# Altium footprint library con-wago.PCBLIB: 167 footprints (part 5 of 11)
Each footprint in its own frame and in the unit in brackets; x right, y up, seen from the top. Pads: shape width x height; smd on the part's side, far side on the other; paste and mask are expansions set on the pad; w line width, h text height; cw(c..) or ccw(c..) is an arc to the next point about the centre after c.
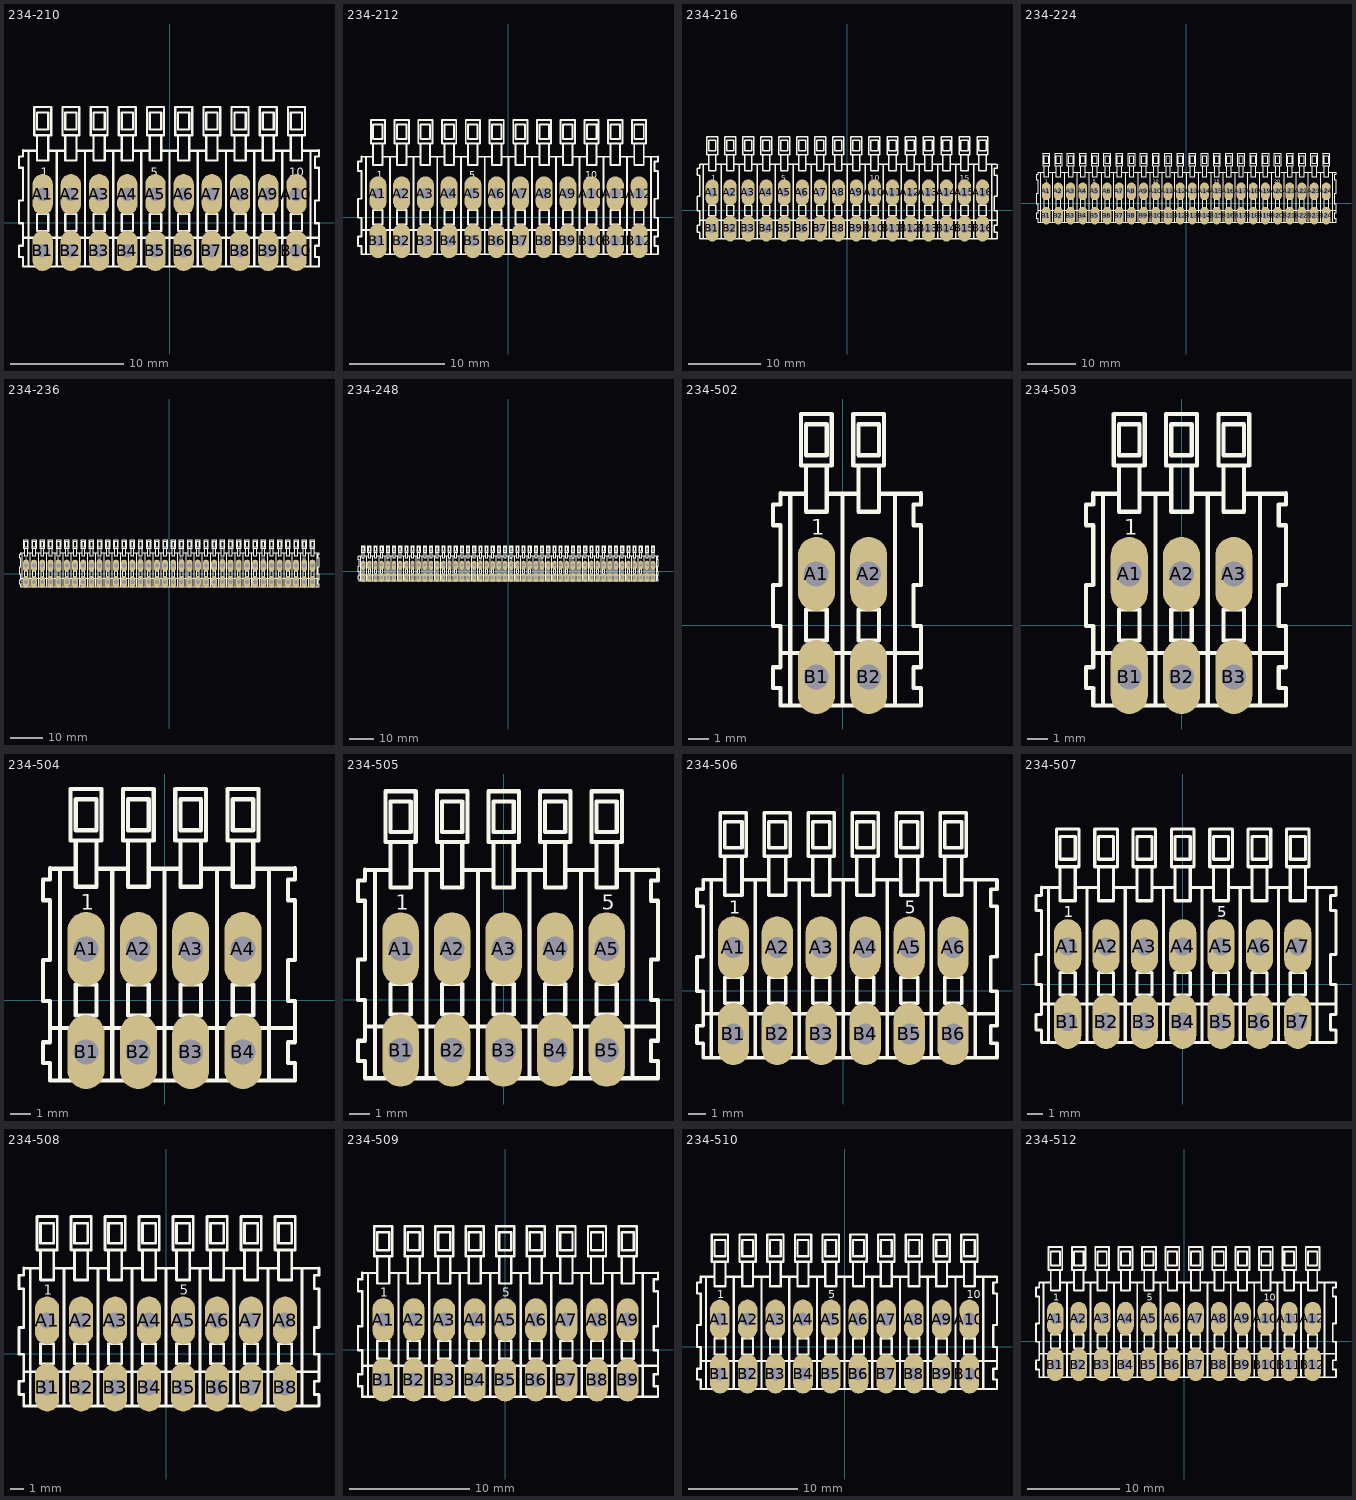
[diagram p4: the footprints below, top view; thin cyan lines are the x and y axes]

## 234-210 [mil]
pads (20):
  oval 70.86x141.72 hole 47.24: A1(-442.91,98.43) A2(-344.49,98.43) A3(-246.06,98.43) A4(-147.64,98.43) A5(-49.21,98.43) A6(49.21,98.43) A7(147.64,98.43) A8(246.06,98.43) A9(344.49,98.43) A10(442.91,98.43) B1(-442.91,-98.43) B2(-344.49,-98.43) B3(-246.06,-98.43) B4(-147.64,-98.43) B5(-49.21,-98.43) B6(49.21,-98.43) B7(147.64,-98.43) B8(246.06,-98.43) B9(344.49,-98.43) B10(442.91,-98.43)
Top Overlay:
  drawing of 223 lines, arcs and shapes, not listed
  text "1" at -448.82,151.57 h49.6
  text "10" at 417.32,151.57 h49.6
  text "5" at -64.96,151.57 h49.6

## 234-212 [mil]
pads (24):
  oval 70.86x141.72 hole 47.24: A1(-541.34,98.43) A2(-442.91,98.43) A3(-344.49,98.43) A4(-246.06,98.43) A5(-147.64,98.43) A6(-49.21,98.43) A7(49.21,98.43) A8(147.64,98.43) A9(246.06,98.43) A10(344.49,98.43) A11(442.91,98.43) A12(541.34,98.43) B1(-541.34,-98.43) B2(-442.91,-98.43) B3(-344.49,-98.43) B4(-246.06,-98.43) B5(-147.64,-98.43) B6(-49.21,-98.43) B7(49.21,-98.43) B8(147.64,-98.43) B9(246.06,-98.43) B10(344.49,-98.43) B11(442.91,-98.43) B12(541.34,-98.43)
Top Overlay:
  drawing of 261 lines, arcs and shapes, not listed
  text "1" at -547.24,151.57 h49.6
  text "10" at 318.9,151.57 h49.6
  text "5" at -163.39,151.57 h49.6

## 234-216 [mil]
pads (32):
  oval 70.86x141.72 hole 47.24: A1(-738.19,98.43) A2(-639.76,98.43) A3(-541.34,98.43) A4(-442.91,98.43) A5(-344.49,98.43) A6(-246.06,98.43) A7(-147.64,98.43) A8(-49.21,98.43) A9(49.21,98.43) A10(147.64,98.43) A11(246.06,98.43) A12(344.49,98.43) A13(442.91,98.43) A14(541.34,98.43) A15(639.76,98.43) A16(738.19,98.43) B1(-738.19,-98.43) B2(-639.76,-98.43) B3(-541.34,-98.43) B4(-442.91,-98.43) B5(-344.49,-98.43) B6(-246.06,-98.43) B7(-147.64,-98.43) B8(-49.21,-98.43) B9(49.21,-98.43) B10(147.64,-98.43) B11(246.06,-98.43) B12(344.49,-98.43) B13(442.91,-98.43) B14(541.34,-98.43) B15(639.76,-98.43) B16(738.19,-98.43)
Top Overlay:
  drawing of 337 lines, arcs and shapes, not listed
  text "1" at -744.09,151.57 h49.6
  text "10" at 122.05,151.57 h49.6
  text "5" at -360.24,151.57 h49.6
  text "15" at 614.17,151.57 h49.6

## 234-224 [mm]
pads (48):
  oval 1.8x3.6 hole 1.2: A1(-28.75,2.5) A2(-26.25,2.5) A3(-23.75,2.5) A4(-21.25,2.5) A5(-18.75,2.5) A6(-16.25,2.5) A7(-13.75,2.5) A8(-11.25,2.5) A9(-8.75,2.5) A10(-6.25,2.5) A11(-3.75,2.5) A12(-1.25,2.5) A13(1.25,2.5) A14(3.75,2.5) A15(6.25,2.5) A16(8.75,2.5) A17(11.25,2.5) A18(13.75,2.5) A19(16.25,2.5) A20(18.75,2.5) A21(21.25,2.5) A22(23.75,2.5) A23(26.25,2.5) A24(28.75,2.5) B1(-28.75,-2.5) B2(-26.25,-2.5) B3(-23.75,-2.5) B4(-21.25,-2.5) B5(-18.75,-2.5) B6(-16.25,-2.5) B7(-13.75,-2.5) B8(-11.25,-2.5) B9(-8.75,-2.5) B10(-6.25,-2.5) B11(-3.75,-2.5) B12(-1.25,-2.5) B13(1.25,-2.5) B14(3.75,-2.5) B15(6.25,-2.5) B16(8.75,-2.5) B17(11.25,-2.5) B18(13.75,-2.5) B19(16.25,-2.5) B20(18.75,-2.5) B21(21.25,-2.5) B22(23.75,-2.5) B23(26.25,-2.5) B24(28.75,-2.5)
Top Overlay:
  drawing of 489 lines, arcs and shapes, not listed
  text "1" at -28.9,3.85 h1.26
  text "10" at -6.9,3.85 h1.26
  text "20" at 18.1,3.85 h1.26
  text "5" at -19.15,3.85 h1.26
  text "15" at 5.6,3.85 h1.26

## 234-236 [mm]
pads (72):
  oval 1.8x3.6 hole 1.2: A1(-43.75,2.5) A2(-41.25,2.5) A3(-38.75,2.5) A4(-36.25,2.5) A5(-33.75,2.5) A6(-31.25,2.5) A7(-28.75,2.5) A8(-26.25,2.5) A9(-23.75,2.5) A10(-21.25,2.5) A11(-18.75,2.5) A12(-16.25,2.5) A13(-13.75,2.5) A14(-11.25,2.5) A15(-8.75,2.5) A16(-6.25,2.5) A17(-3.75,2.5) A18(-1.25,2.5) A19(1.25,2.5) A20(3.75,2.5) A21(6.25,2.5) A22(8.75,2.5) A23(11.25,2.5) A24(13.75,2.5) A25(16.25,2.5) A26(18.75,2.5) A27(21.25,2.5) A28(23.75,2.5) A29(26.25,2.5) A30(28.75,2.5) A31(31.25,2.5) A32(33.75,2.5) A33(36.25,2.5) A34(38.75,2.5) A35(41.25,2.5) A36(43.75,2.5) B1(-43.75,-2.5) B2(-41.25,-2.5) B3(-38.75,-2.5) B4(-36.25,-2.5) B5(-33.75,-2.5) B6(-31.25,-2.5) B7(-28.75,-2.5) B8(-26.25,-2.5) B9(-23.75,-2.5) B10(-21.25,-2.5) B11(-18.75,-2.5) B12(-16.25,-2.5) B13(-13.75,-2.5) B14(-11.25,-2.5) B15(-8.75,-2.5) B16(-6.25,-2.5) B17(-3.75,-2.5) B18(-1.25,-2.5) B19(1.25,-2.5) B20(3.75,-2.5) B21(6.25,-2.5) B22(8.75,-2.5) B23(11.25,-2.5) B24(13.75,-2.5) B25(16.25,-2.5) B26(18.75,-2.5) B27(21.25,-2.5) B28(23.75,-2.5) B29(26.25,-2.5) B30(28.75,-2.5) B31(31.25,-2.5) B32(33.75,-2.5) B33(36.25,-2.5) B34(38.75,-2.5) B35(41.25,-2.5) B36(43.75,-2.5)
Top Overlay:
  drawing of 717 lines, arcs and shapes, not listed
  text "1" at -43.9,3.85 h1.26
  text "10" at -21.9,3.85 h1.26
  text "20" at 3.1,3.85 h1.26
  text "30" at 28.1,3.85 h1.26
  text "5" at -34.15,3.85 h1.26
  text "15" at -9.4,3.85 h1.26
  text "25" at 15.6,3.85 h1.26
  text "35" at 40.6,3.85 h1.26

## 234-248 [mm]
pads (96):
  oval 1.8x3.6 hole 1.2: A1(-58.75,2.5) A2(-56.25,2.5) A3(-53.75,2.5) A4(-51.25,2.5) A5(-48.75,2.5) A6(-46.25,2.5) A7(-43.75,2.5) A8(-41.25,2.5) A9(-38.75,2.5) A10(-36.25,2.5) A11(-33.75,2.5) A12(-31.25,2.5) A13(-28.75,2.5) A14(-26.25,2.5) A15(-23.75,2.5) A16(-21.25,2.5) A17(-18.75,2.5) A18(-16.25,2.5) A19(-13.75,2.5) A20(-11.25,2.5) A21(-8.75,2.5) A22(-6.25,2.5) A23(-3.75,2.5) A24(-1.25,2.5) A25(1.25,2.5) A26(3.75,2.5) A27(6.25,2.5) A28(8.75,2.5) A29(11.25,2.5) A30(13.75,2.5) A31(16.25,2.5) A32(18.75,2.5) A33(21.25,2.5) A34(23.75,2.5) A35(26.25,2.5) A36(28.75,2.5) A37(31.25,2.5) A38(33.75,2.5) A39(36.25,2.5) A40(38.75,2.5) A41(41.25,2.5) A42(43.75,2.5) A43(46.25,2.5) A44(48.75,2.5) A45(51.25,2.5) A46(53.75,2.5) A47(56.25,2.5) A48(58.75,2.5) B1(-58.75,-2.5) B2(-56.25,-2.5) B3(-53.75,-2.5) B4(-51.25,-2.5) B5(-48.75,-2.5) B6(-46.25,-2.5) B7(-43.75,-2.5) B8(-41.25,-2.5) B9(-38.75,-2.5) B10(-36.25,-2.5) B11(-33.75,-2.5) B12(-31.25,-2.5) B13(-28.75,-2.5) B14(-26.25,-2.5) B15(-23.75,-2.5) B16(-21.25,-2.5) B17(-18.75,-2.5) B18(-16.25,-2.5) B19(-13.75,-2.5) B20(-11.25,-2.5) B21(-8.75,-2.5) B22(-6.25,-2.5) B23(-3.75,-2.5) B24(-1.25,-2.5) B25(1.25,-2.5) B26(3.75,-2.5) B27(6.25,-2.5) B28(8.75,-2.5) B29(11.25,-2.5) B30(13.75,-2.5) B31(16.25,-2.5) B32(18.75,-2.5) B33(21.25,-2.5) B34(23.75,-2.5) B35(26.25,-2.5) B36(28.75,-2.5) B37(31.25,-2.5) B38(33.75,-2.5) B39(36.25,-2.5) B40(38.75,-2.5) B41(41.25,-2.5) B42(43.75,-2.5) B43(46.25,-2.5) B44(48.75,-2.5) B45(51.25,-2.5) B46(53.75,-2.5) B47(56.25,-2.5) B48(58.75,-2.5)
Top Overlay:
  drawing of 945 lines, arcs and shapes, not listed
  text "1" at -58.9,3.85 h1.26
  text "10" at -36.9,3.85 h1.26
  text "20" at -11.9,3.85 h1.26
  text "30" at 13.1,3.85 h1.26
  text "40" at 38.1,3.85 h1.26
  text "5" at -49.15,3.85 h1.26
  text "15" at -24.4,3.85 h1.26
  text "25" at 0.6,3.85 h1.26
  text "35" at 25.6,3.85 h1.26
  text "45" at 50.6,3.85 h1.26

## 234-502 [mil]
pads (4):
  oval 70.86x141.72 hole 47.24: A1(-50,98.43) A2(50,98.43) B1(-50,-98.43) B2(50,-98.43)
Top Overlay:
  lines w8: -118.9,252.76 -118.9,251.77 ; -100,-150.79 -100,249.21 ; -74.61,251.77 -118.9,251.77 ; -28.9,251.77 25.39,251.77 ; 0,-150.79 0,249.21 ; 71.1,251.77 145.39,251.77 ; 100,-150.79 100,249.21 ; 149.72,252.76 149.72,231.1 135.94,231.1 135.94,191.73 149.72,191.73 149.72,77.56 135.94,77.56 135.94,-1.18 149.72,-1.18 149.72,-52.36 ; -118.9,-52.36 -118.9,-1.18 -132.68,-1.18 -132.68,77.56 -118.9,77.56 -118.9,191.73 -132.68,191.73 -132.68,231.1 -118.9,231.1 -118.9,251.77 ; -118.9,-52.36 -118.9,-79.92 -132.68,-79.92 -132.68,-119.29 -118.9,-119.29 -118.9,-152.76 149.72,-152.76 149.72,-119.29 135.94,-119.29 135.94,-79.92 149.72,-79.92 149.72,-52.36 ; -118.9,-52.36 149.72,-52.36 ; -69.69,305.91 -79.53,305.91 -79.53,404.33 -20.47,404.33 -20.47,305.91 -30.32,305.91 ; -69.69,305.91 -30.32,305.91 ; -69.69,305.91 -69.69,217.32 -30.32,217.32 -30.32,305.91 ; 30.32,305.91 20.47,305.91 20.47,404.33 79.53,404.33 79.53,305.91 69.69,305.91 ; 30.32,305.91 69.69,305.91 ; 30.32,305.91 30.32,217.32 69.69,217.32 69.69,305.91 ; -69.69,-28.74 -69.69,30.32 -30.32,30.32 -30.32,-28.74 -69.69,-28.74 ; -69.69,325.59 -69.69,384.65 -30.32,384.65 -30.32,325.59 -69.69,325.59 ; 30.32,-28.74 30.32,30.32 69.69,30.32 69.69,-28.74 30.32,-28.74 ; 30.32,325.59 30.32,384.65 69.69,384.65 69.69,325.59 30.32,325.59
  text "1" at -59.84,164.17 h49.6

## 234-503 [mil]
pads (6):
  oval 70.86x141.72 hole 47.24: A1(-100,98.43) A2(0,98.43) A3(100,98.43) B1(-100,-98.43) B2(0,-98.43) B3(100,-98.43)
Top Overlay:
  lines w8: -168.9,252.76 -168.9,251.77 ; -150,-150.79 -150,249.21 ; -124.61,251.77 -168.9,251.77 ; -78.9,251.77 -24.61,251.77 ; -50,-150.79 -50,249.21 ; 21.1,251.77 75.39,251.77 ; 50,-150.79 50,249.21 ; 121.1,251.77 195.39,251.77 ; 150,-150.79 150,249.21 ; 199.72,252.76 199.72,231.1 185.94,231.1 185.94,191.73 199.72,191.73 199.72,77.56 185.94,77.56 185.94,-1.18 199.72,-1.18 199.72,-52.36 ; -168.9,-52.36 -168.9,-1.18 -182.68,-1.18 -182.68,77.56 -168.9,77.56 -168.9,191.73 -182.68,191.73 -182.68,231.1 -168.9,231.1 -168.9,251.77 ; -168.9,-52.36 -168.9,-79.92 -182.68,-79.92 -182.68,-119.29 -168.9,-119.29 -168.9,-152.76 199.72,-152.76 199.72,-119.29 185.94,-119.29 185.94,-79.92 199.72,-79.92 199.72,-52.36 ; -168.9,-52.36 199.72,-52.36 ; -119.69,305.91 -129.53,305.91 -129.53,404.33 -70.47,404.33 -70.47,305.91 -80.32,305.91 ; -119.69,305.91 -80.32,305.91 ; -119.69,305.91 -119.69,217.32 -80.32,217.32 -80.32,305.91 ; -19.69,305.91 -29.53,305.91 -29.53,404.33 29.53,404.33 29.53,305.91 19.69,305.91 ; -19.69,305.91 19.69,305.91 ; -19.69,305.91 -19.69,217.32 19.69,217.32 19.69,305.91 ; 80.32,305.91 70.47,305.91 70.47,404.33 129.53,404.33 129.53,305.91 119.69,305.91 ; 80.32,305.91 119.69,305.91 ; 80.32,305.91 80.32,217.32 119.69,217.32 119.69,305.91 ; -119.69,-28.74 -119.69,30.32 -80.32,30.32 -80.32,-28.74 -119.69,-28.74 ; -119.69,325.59 -119.69,384.65 -80.32,384.65 -80.32,325.59 -119.69,325.59 ; -19.69,-28.74 -19.69,30.32 19.69,30.32 19.69,-28.74 -19.69,-28.74 ; -19.69,325.59 -19.69,384.65 19.69,384.65 19.69,325.59 -19.69,325.59 ; 80.32,-28.74 80.32,30.32 119.69,30.32 119.69,-28.74 80.32,-28.74 ; 80.32,325.59 80.32,384.65 119.69,384.65 119.69,325.59 80.32,325.59
  text "1" at -109.84,164.17 h49.6

## 234-504 [mil]
pads (8):
  oval 70.86x141.72 hole 47.24: A1(-150,98.43) A2(-50,98.43) A3(50,98.43) A4(150,98.43) B1(-150,-98.43) B2(-50,-98.43) B3(50,-98.43) B4(150,-98.43)
Top Overlay:
  lines w8: -218.9,252.76 -218.9,251.77 ; -200,-150.79 -200,249.21 ; -174.61,251.77 -218.9,251.77 ; -128.9,251.77 -74.61,251.77 ; -100,-150.79 -100,249.21 ; -28.9,251.77 25.39,251.77 ; 0,-150.79 0,249.21 ; 71.1,251.77 125.39,251.77 ; 100,-150.79 100,249.21 ; 171.1,251.77 245.39,251.77 ; 200,-150.79 200,249.21 ; 249.72,252.76 249.72,231.1 235.94,231.1 235.94,191.73 249.72,191.73 249.72,77.56 235.94,77.56 235.94,-1.18 249.72,-1.18 249.72,-52.36 ; -218.9,-52.36 -218.9,-1.18 -232.68,-1.18 -232.68,77.56 -218.9,77.56 -218.9,191.73 -232.68,191.73 -232.68,231.1 -218.9,231.1 -218.9,251.77 ; -218.9,-52.36 -218.9,-79.92 -232.68,-79.92 -232.68,-119.29 -218.9,-119.29 -218.9,-152.76 249.72,-152.76 249.72,-119.29 235.94,-119.29 235.94,-79.92 249.72,-79.92 249.72,-52.36 ; -218.9,-52.36 249.72,-52.36 ; -169.69,305.91 -179.53,305.91 -179.53,404.33 -120.47,404.33 -120.47,305.91 -130.32,305.91 ; -169.69,305.91 -130.32,305.91 ; -169.69,305.91 -169.69,217.32 -130.32,217.32 -130.32,305.91 ; -69.69,305.91 -79.53,305.91 -79.53,404.33 -20.47,404.33 -20.47,305.91 -30.32,305.91 ; -69.69,305.91 -30.32,305.91 ; -69.69,305.91 -69.69,217.32 -30.32,217.32 -30.32,305.91 ; 30.32,305.91 20.47,305.91 20.47,404.33 79.53,404.33 79.53,305.91 69.69,305.91 ; 30.32,305.91 69.69,305.91 ; 30.32,305.91 30.32,217.32 69.69,217.32 69.69,305.91 ; 130.32,305.91 120.47,305.91 120.47,404.33 179.53,404.33 179.53,305.91 169.69,305.91 ; 130.32,305.91 169.69,305.91 ; 130.32,305.91 130.32,217.32 169.69,217.32 169.69,305.91 ; -169.69,-28.74 -169.69,30.32 -130.32,30.32 -130.32,-28.74 -169.69,-28.74 ; -169.69,325.59 -169.69,384.65 -130.32,384.65 -130.32,325.59 -169.69,325.59 ; -69.69,-28.74 -69.69,30.32 -30.32,30.32 -30.32,-28.74 -69.69,-28.74 ; -69.69,325.59 -69.69,384.65 -30.32,384.65 -30.32,325.59 -69.69,325.59 ; 30.32,-28.74 30.32,30.32 69.69,30.32 69.69,-28.74 30.32,-28.74 ; 30.32,325.59 30.32,384.65 69.69,384.65 69.69,325.59 30.32,325.59 ; 130.32,-28.74 130.32,30.32 169.69,30.32 169.69,-28.74 130.32,-28.74 ; 130.32,325.59 130.32,384.65 169.69,384.65 169.69,325.59 130.32,325.59
  text "1" at -159.84,164.17 h49.6

## 234-505 [mil]
pads (10):
  oval 70.86x141.72 hole 47.24: A1(-200,98.43) A2(-100,98.43) A3(0,98.43) A4(100,98.43) A5(200,98.43) B1(-200,-98.43) B2(-100,-98.43) B3(0,-98.43) B4(100,-98.43) B5(200,-98.43)
Top Overlay:
  lines w8: -268.9,252.76 -268.9,251.77 ; -250,-150.79 -250,249.21 ; -224.61,251.77 -268.9,251.77 ; -178.9,251.77 -124.61,251.77 ; -150,-150.79 -150,249.21 ; -78.9,251.77 -24.61,251.77 ; -50,-150.79 -50,249.21 ; 21.1,251.77 75.39,251.77 ; 50,-150.79 50,249.21 ; 121.1,251.77 175.39,251.77 ; 150,-150.79 150,249.21 ; 221.1,251.77 295.39,251.77 ; 250,-150.79 250,249.21 ; 299.72,252.76 299.72,231.1 285.94,231.1 285.94,191.73 299.72,191.73 299.72,77.56 285.94,77.56 285.94,-1.18 299.72,-1.18 299.72,-52.36 ; -268.9,-52.36 -268.9,-1.18 -282.68,-1.18 -282.68,77.56 -268.9,77.56 -268.9,191.73 -282.68,191.73 -282.68,231.1 -268.9,231.1 -268.9,251.77 ; -268.9,-52.36 -268.9,-79.92 -282.68,-79.92 -282.68,-119.29 -268.9,-119.29 -268.9,-152.76 299.72,-152.76 299.72,-119.29 285.94,-119.29 285.94,-79.92 299.72,-79.92 299.72,-52.36 ; -268.9,-52.36 299.72,-52.36 ; -219.69,305.91 -229.53,305.91 -229.53,404.33 -170.47,404.33 -170.47,305.91 -180.32,305.91 ; -219.69,305.91 -180.32,305.91 ; -219.69,305.91 -219.69,217.32 -180.32,217.32 -180.32,305.91 ; -119.69,305.91 -129.53,305.91 -129.53,404.33 -70.47,404.33 -70.47,305.91 -80.32,305.91 ; -119.69,305.91 -80.32,305.91 ; -119.69,305.91 -119.69,217.32 -80.32,217.32 -80.32,305.91 ; -19.69,305.91 -29.53,305.91 -29.53,404.33 29.53,404.33 29.53,305.91 19.69,305.91 ; -19.69,305.91 19.69,305.91 ; -19.69,305.91 -19.69,217.32 19.69,217.32 19.69,305.91 ; 80.32,305.91 70.47,305.91 70.47,404.33 129.53,404.33 129.53,305.91 119.69,305.91 ; 80.32,305.91 119.69,305.91 ; 80.32,305.91 80.32,217.32 119.69,217.32 119.69,305.91 ; 180.32,305.91 170.47,305.91 170.47,404.33 229.53,404.33 229.53,305.91 219.69,305.91 ; 180.32,305.91 219.69,305.91 ; 180.32,305.91 180.32,217.32 219.69,217.32 219.69,305.91 ; -219.69,-28.74 -219.69,30.32 -180.32,30.32 -180.32,-28.74 -219.69,-28.74 ; -219.69,325.59 -219.69,384.65 -180.32,384.65 -180.32,325.59 -219.69,325.59 ; -119.69,-28.74 -119.69,30.32 -80.32,30.32 -80.32,-28.74 -119.69,-28.74 ; -119.69,325.59 -119.69,384.65 -80.32,384.65 -80.32,325.59 -119.69,325.59 ; -19.69,-28.74 -19.69,30.32 19.69,30.32 19.69,-28.74 -19.69,-28.74 ; -19.69,325.59 -19.69,384.65 19.69,384.65 19.69,325.59 -19.69,325.59 ; 80.32,-28.74 80.32,30.32 119.69,30.32 119.69,-28.74 80.32,-28.74 ; 80.32,325.59 80.32,384.65 119.69,384.65 119.69,325.59 80.32,325.59 ; 180.32,-28.74 180.32,30.32 219.69,30.32 219.69,-28.74 180.32,-28.74 ; 180.32,325.59 180.32,384.65 219.69,384.65 219.69,325.59 180.32,325.59
  text "1" at -209.84,164.17 h49.6
  text "5" at 190.16,164.17 h49.6

## 234-506 [mil]
pads (12):
  oval 70.86x141.72 hole 47.24: A1(-250,98.43) A2(-150,98.43) A3(-50,98.43) A4(50,98.43) A5(150,98.43) A6(250,98.43) B1(-250,-98.43) B2(-150,-98.43) B3(-50,-98.43) B4(50,-98.43) B5(150,-98.43) B6(250,-98.43)
Top Overlay:
  lines w8: -318.9,252.76 -318.9,251.77 ; -300,-150.79 -300,249.21 ; -274.61,251.77 -318.9,251.77 ; -228.9,251.77 -174.61,251.77 ; -200,-150.79 -200,249.21 ; -128.9,251.77 -74.61,251.77 ; -100,-150.79 -100,249.21 ; -28.9,251.77 25.39,251.77 ; 0,-150.79 0,249.21 ; 71.1,251.77 125.39,251.77 ; 100,-150.79 100,249.21 ; 171.1,251.77 225.39,251.77 ; 200,-150.79 200,249.21 ; 271.1,251.77 345.39,251.77 ; 300,-150.79 300,249.21 ; 349.72,252.76 349.72,231.1 335.94,231.1 335.94,191.73 349.72,191.73 349.72,77.56 335.94,77.56 335.94,-1.18 349.72,-1.18 349.72,-52.36 ; -318.9,-52.36 -318.9,-1.18 -332.68,-1.18 -332.68,77.56 -318.9,77.56 -318.9,191.73 -332.68,191.73 -332.68,231.1 -318.9,231.1 -318.9,251.77 ; -318.9,-52.36 -318.9,-79.92 -332.68,-79.92 -332.68,-119.29 -318.9,-119.29 -318.9,-152.76 349.72,-152.76 349.72,-119.29 335.94,-119.29 335.94,-79.92 349.72,-79.92 349.72,-52.36 ; -318.9,-52.36 349.72,-52.36 ; -269.69,305.91 -279.53,305.91 -279.53,404.33 -220.47,404.33 -220.47,305.91 -230.32,305.91 ; -269.69,305.91 -230.32,305.91 ; -269.69,305.91 -269.69,217.32 -230.32,217.32 -230.32,305.91 ; -169.69,305.91 -179.53,305.91 -179.53,404.33 -120.47,404.33 -120.47,305.91 -130.32,305.91 ; -169.69,305.91 -130.32,305.91 ; -169.69,305.91 -169.69,217.32 -130.32,217.32 -130.32,305.91 ; -69.69,305.91 -79.53,305.91 -79.53,404.33 -20.47,404.33 -20.47,305.91 -30.32,305.91 ; -69.69,305.91 -30.32,305.91 ; -69.69,305.91 -69.69,217.32 -30.32,217.32 -30.32,305.91 ; 30.32,305.91 20.47,305.91 20.47,404.33 79.53,404.33 79.53,305.91 69.69,305.91 ; 30.32,305.91 69.69,305.91 ; 30.32,305.91 30.32,217.32 69.69,217.32 69.69,305.91 ; 130.32,305.91 120.47,305.91 120.47,404.33 179.53,404.33 179.53,305.91 169.69,305.91 ; 130.32,305.91 169.69,305.91 ; 130.32,305.91 130.32,217.32 169.69,217.32 169.69,305.91 ; 230.32,305.91 220.47,305.91 220.47,404.33 279.53,404.33 279.53,305.91 269.69,305.91 ; 230.32,305.91 269.69,305.91 ; 230.32,305.91 230.32,217.32 269.69,217.32 269.69,305.91 ; -269.69,-28.74 -269.69,30.32 -230.32,30.32 -230.32,-28.74 -269.69,-28.74 ; -269.69,325.59 -269.69,384.65 -230.32,384.65 -230.32,325.59 -269.69,325.59 ; -169.69,-28.74 -169.69,30.32 -130.32,30.32 -130.32,-28.74 -169.69,-28.74 ; -169.69,325.59 -169.69,384.65 -130.32,384.65 -130.32,325.59 -169.69,325.59 ; -69.69,-28.74 -69.69,30.32 -30.32,30.32 -30.32,-28.74 -69.69,-28.74 ; -69.69,325.59 -69.69,384.65 -30.32,384.65 -30.32,325.59 -69.69,325.59 ; 30.32,-28.74 30.32,30.32 69.69,30.32 69.69,-28.74 30.32,-28.74 ; 30.32,325.59 30.32,384.65 69.69,384.65 69.69,325.59 30.32,325.59 ; 130.32,-28.74 130.32,30.32 169.69,30.32 169.69,-28.74 130.32,-28.74 ; 130.32,325.59 130.32,384.65 169.69,384.65 169.69,325.59 130.32,325.59 ; 230.32,-28.74 230.32,30.32 269.69,30.32 269.69,-28.74 230.32,-28.74 ; 230.32,325.59 230.32,384.65 269.69,384.65 269.69,325.59 230.32,325.59
  text "1" at -259.84,164.17 h49.6
  text "5" at 140.16,164.17 h49.6

## 234-507 [mil]
pads (14):
  oval 70.86x141.72 hole 47.24: A1(-300,98.43) A2(-200,98.43) A3(-100,98.43) A4(0,98.43) A5(100,98.43) A6(200,98.43) A7(300,98.43) B1(-300,-98.43) B2(-200,-98.43) B3(-100,-98.43) B4(0,-98.43) B5(100,-98.43) B6(200,-98.43) B7(300,-98.43)
Top Overlay:
  drawing of 166 lines, arcs and shapes, not listed
  text "1" at -309.84,164.17 h49.6
  text "5" at 90.16,164.17 h49.6

## 234-508 [mil]
pads (16):
  oval 70.86x141.72 hole 47.24: A1(-350,98.43) A2(-250,98.43) A3(-150,98.43) A4(-50,98.43) A5(50,98.43) A6(150,98.43) A7(250,98.43) A8(350,98.43) B1(-350,-98.43) B2(-250,-98.43) B3(-150,-98.43) B4(-50,-98.43) B5(50,-98.43) B6(150,-98.43) B7(250,-98.43) B8(350,-98.43)
Top Overlay:
  drawing of 185 lines, arcs and shapes, not listed
  text "1" at -359.84,164.17 h49.6
  text "5" at 40.16,164.17 h49.6

## 234-509 [mil]
pads (18):
  oval 70.86x141.72 hole 47.24: A1(-400,98.43) A2(-300,98.43) A3(-200,98.43) A4(-100,98.43) A5(0,98.43) A6(100,98.43) A7(200,98.43) A8(300,98.43) A9(400,98.43) B1(-400,-98.43) B2(-300,-98.43) B3(-200,-98.43) B4(-100,-98.43) B5(0,-98.43) B6(100,-98.43) B7(200,-98.43) B8(300,-98.43) B9(400,-98.43)
Top Overlay:
  drawing of 204 lines, arcs and shapes, not listed
  text "1" at -409.84,164.17 h49.6
  text "5" at -9.84,164.17 h49.6

## 234-510 [mil]
pads (20):
  oval 70.86x141.72 hole 47.24: A1(-450,98.43) A2(-350,98.43) A3(-250,98.43) A4(-150,98.43) A5(-50,98.43) A6(50,98.43) A7(150,98.43) A8(250,98.43) A9(350,98.43) A10(450,98.43) B1(-450,-98.43) B2(-350,-98.43) B3(-250,-98.43) B4(-150,-98.43) B5(-50,-98.43) B6(50,-98.43) B7(150,-98.43) B8(250,-98.43) B9(350,-98.43) B10(450,-98.43)
Top Overlay:
  drawing of 223 lines, arcs and shapes, not listed
  text "1" at -459.84,164.17 h49.6
  text "5" at -59.84,164.17 h49.6
  text "10" at 440.16,164.17 h49.6

## 234-512 [mil]
pads (24):
  oval 70.86x141.72 hole 47.24: A1(-550,98.43) A2(-450,98.43) A3(-350,98.43) A4(-250,98.43) A5(-150,98.43) A6(-50,98.43) A7(50,98.43) A8(150,98.43) A9(250,98.43) A10(350,98.43) A11(450,98.43) A12(550,98.43) B1(-550,-98.43) B2(-450,-98.43) B3(-350,-98.43) B4(-250,-98.43) B5(-150,-98.43) B6(-50,-98.43) B7(50,-98.43) B8(150,-98.43) B9(250,-98.43) B10(350,-98.43) B11(450,-98.43) B12(550,-98.43)
Top Overlay:
  drawing of 261 lines, arcs and shapes, not listed
  text "1" at -559.84,164.17 h49.6
  text "5" at -159.84,164.17 h49.6
  text "10" at 340.16,164.17 h49.6